# EAGLE library part LM3S6938 (library luminary-arm)
MICROCONTROLLER
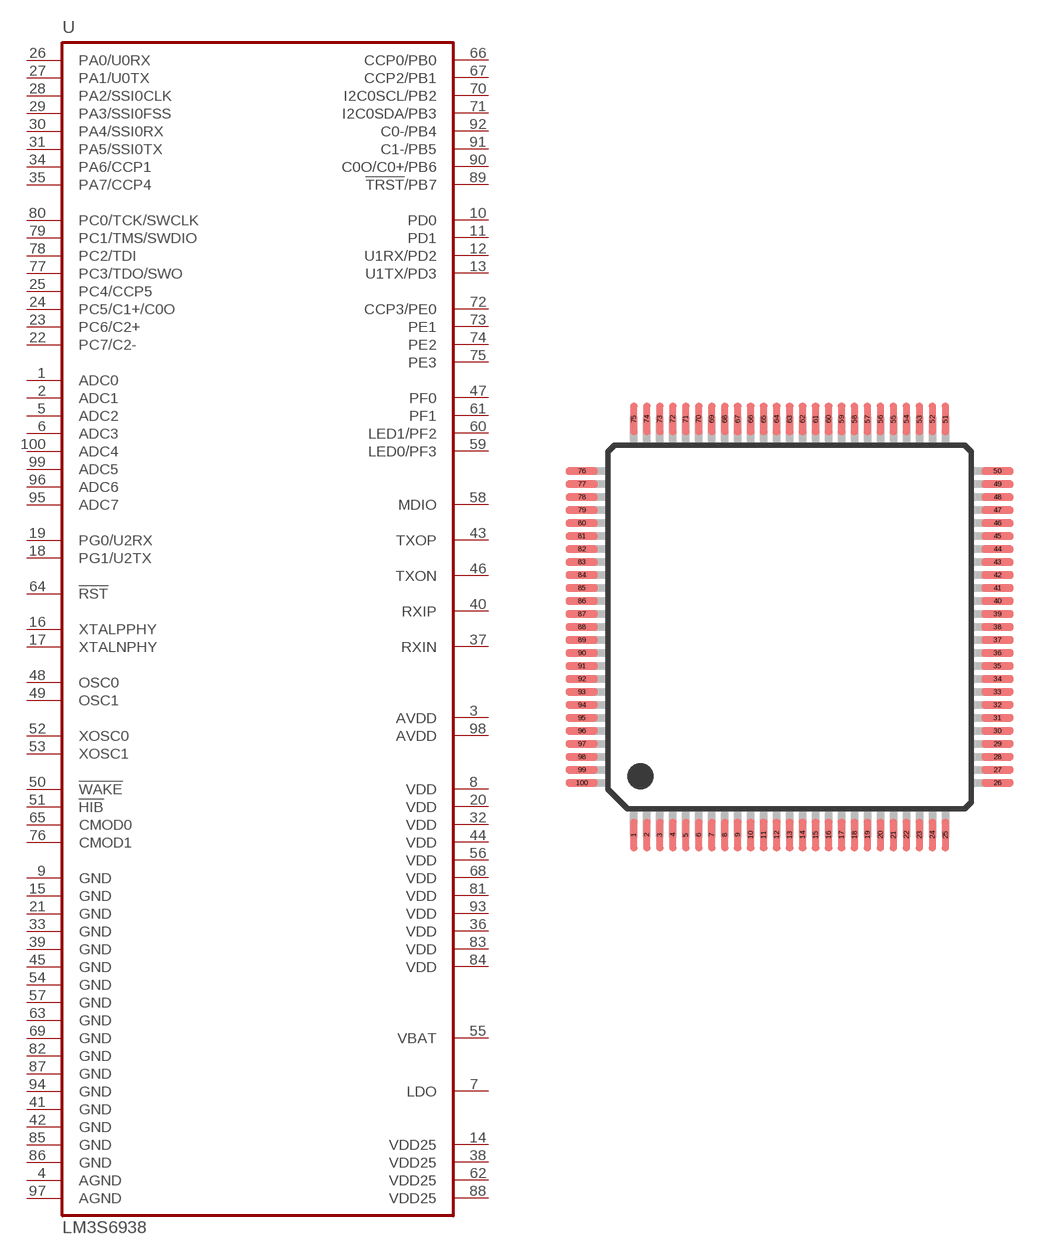
[diagram p21: symbol with the pads of LQFP100; footprint LQFP100]

Designator prefix U

## LM3S6938  [LQFP100]
1  ADC0
2  ADC1
3  AVDD  pwr
4  AGND  pwr
5  ADC2
6  ADC3
7  LDO  pas
8  VDD  pwr
9  GND  pwr
10  PD0
11  PD1
12  U1RX/PD2
13  U1TX/PD3
14  VDD25  pwr
15  GND  pwr
16  XTALPPHY  in
17  XTALNPHY  out
18  PG1/U2TX
19  PG0/U2RX
20  VDD  pwr
21  GND  pwr
22  PC7/C2-
23  PC6/C2+
24  PC5/C1+/C0O
25  PC4/CCP5
26  PA0/U0RX
27  PA1/U0TX
28  PA2/SSI0CLK
29  PA3/SSI0FSS
30  PA4/SSI0RX
31  PA5/SSI0TX
32  VDD  pwr
33  GND  pwr
34  PA6/CCP1
35  PA7/CCP4
36  VDD  pwr
37  RXIN  in
38  VDD25  pwr
39  GND  pwr
40  RXIP  in
41  GND  pwr
42  GND  pwr
43  TXOP  out
44  VDD  pwr
45  GND  pwr
46  TXON  out
47  PF0
48  OSC0  in
49  OSC1  out
50  !WAKE!  in
51  !HIB!  out
52  XOSC0  in
53  XOSC1  out
54  GND  pwr
55  VBAT  pas
56  VDD  pwr
57  GND  pwr
58  MDIO
59  LED0/PF3
60  LED1/PF2
61  PF1
62  VDD25  pwr
63  GND  pwr
64  !RST!  in
65  CMOD0  in
66  CCP0/PB0
67  CCP2/PB1
68  VDD  pwr
69  GND  pwr
70  I2C0SCL/PB2
71  I2C0SDA/PB3
72  CCP3/PE0
73  PE1
74  PE2
75  PE3
76  CMOD1  in
77  PC3/TDO/SWO
78  PC2/TDI
79  PC1/TMS/SWDIO
80  PC0/TCK/SWCLK
81  VDD  pwr
82  GND  pwr
83  VDD  pwr
84  VDD  pwr
85  GND  pwr
86  GND  pwr
87  GND  pwr
88  VDD25  pwr
89  !TRST!/PB7
90  C0O/C0+/PB6
91  C1-/PB5
92  C0-/PB4
93  VDD  pwr
94  GND  pwr
95  ADC7
96  ADC6
97  AGND  pwr
98  AVDD  pwr
99  ADC5
100  ADC4

## Footprint LQFP100 (pad centres in mm)
LQFP-100 Package
smd 0.3 x 1.25: 1 -6,-8; 2 -5.5,-8; 3 -5,-8; 4 -4.5,-8; 5 -4,-8; 6 -3.5,-8; 7 -3,-8; 8 -2.5,-8; 9 -2,-8; 10 -1.5,-8; 11 -1,-8; 12 -0.5,-8; 13 0,-8; 14 0.5,-8; 15 1,-8; 16 1.5,-8; 17 2,-8; 18 2.5,-8; 19 3,-8; 20 3.5,-8; 21 4,-8; 22 4.5,-8; 23 5,-8; 24 5.5,-8; 25 6,-8; 51 6,8; 52 5.5,8; 53 5,8; 54 4.5,8; 55 4,8; 56 3.5,8; 57 3,8; 58 2.5,8; 59 2,8; 60 1.5,8; 61 1,8; 62 0.5,8; 63 0,8; 64 -0.5,8; 65 -1,8; 66 -1.5,8; 67 -2,8; 68 -2.5,8; 69 -3,8; 70 -3.5,8; 71 -4,8; 72 -4.5,8; 73 -5,8; 74 -5.5,8; 75 -6,8
smd 1.25 x 0.3: 26 8,-6; 27 8,-5.5; 28 8,-5; 29 8,-4.5; 30 8,-4; 31 8,-3.5; 32 8,-3; 33 8,-2.5; 34 8,-2; 35 8,-1.5; 36 8,-1; 37 8,-0.5; 38 8,0; 39 8,0.5; 40 8,1; 41 8,1.5; 42 8,2; 43 8,2.5; 44 8,3; 45 8,3.5; 46 8,4; 47 8,4.5; 48 8,5; 49 8,5.5; 50 8,6; 76 -8,6; 77 -8,5.5; 78 -8,5; 79 -8,4.5; 80 -8,4; 81 -8,3.5; 82 -8,3; 83 -8,2.5; 84 -8,2; 85 -8,1.5; 86 -8,1; 87 -8,0.5; 88 -8,0; 89 -8,-0.5; 90 -8,-1; 91 -8,-1.5; 92 -8,-2; 93 -8,-2.5; 94 -8,-3; 95 -8,-3.5; 96 -8,-4; 97 -8,-4.5; 98 -8,-5; 99 -8,-5.5; 100 -8,-6